# Altium footprint library Connectors_Misc.PcbLib: 46 footprints (part 1 of 3)
Each footprint in its own frame and in the unit in brackets; x right, y up, seen from the top. Pads: shape width x height; smd on the part's side, far side on the other; paste and mask are expansions set on the pad; w line width, h text height; cw(c..) or ccw(c..) is an arc to the next point about the centre after c.
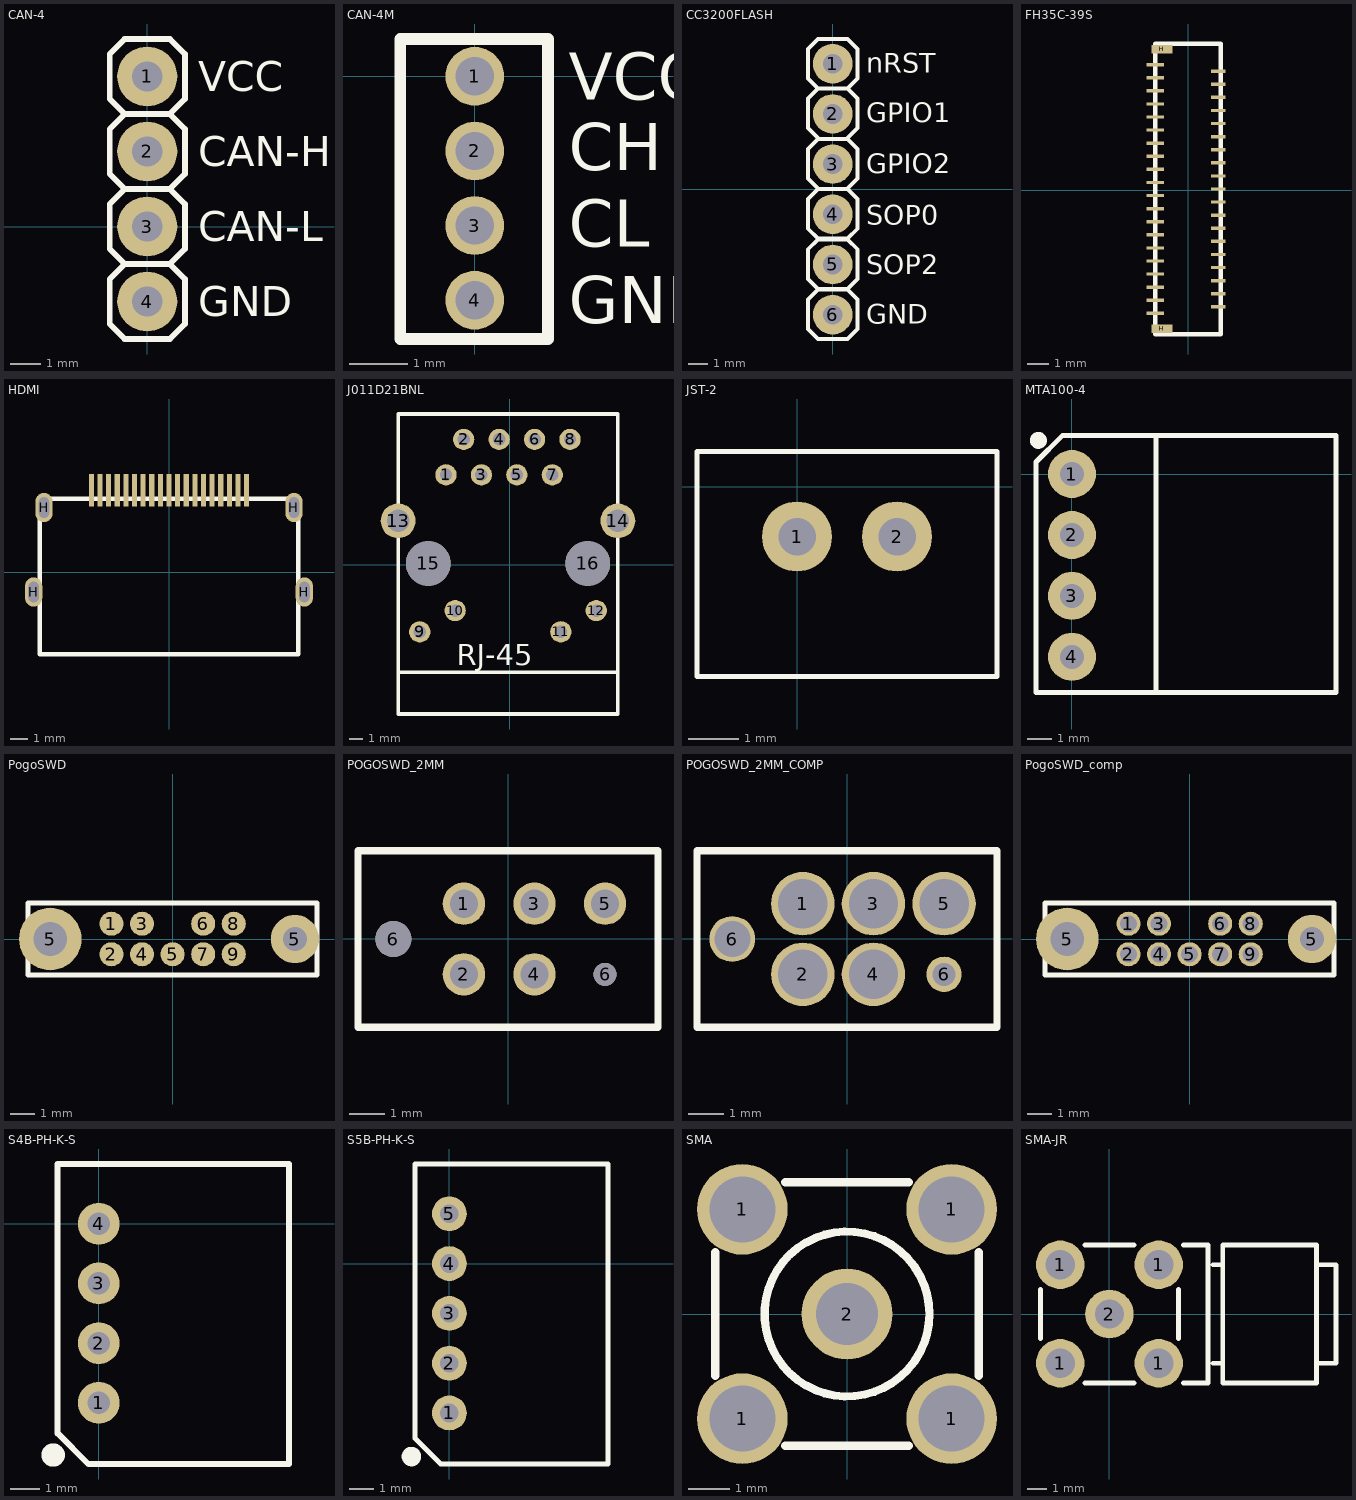
[diagram p0: the footprints below, top view; thin cyan lines are the x and y axes]

## CAN-4 [mm]
pads (4):
  round 2 hole 1: 1(0,5) 2(0,2.5) 3(0,0) 4(0,-2.5)
Top Overlay:
  lines w0.2: -0.75,-1.25 -1.25,-1.75 -1.25,-3.25 -0.75,-3.75 0.75,-3.75 1.25,-3.25 1.25,-1.75 0.75,-1.25 ; -0.75,-1.25 -1.25,-0.75 -1.25,0.75 -0.75,1.25 ; -0.75,-1.25 0.75,-1.25 ; -0.75,1.25 0.75,1.25 ; -0.75,1.25 -1.25,1.75 -1.25,3.25 -0.75,3.75 ; -0.75,3.75 -1.25,4.25 -1.25,5.75 -0.75,6.25 0.75,6.25 1.25,5.75 1.25,4.25 0.75,3.75 ; -0.75,3.75 0.75,3.75 ; 0.75,-1.25 1.25,-0.75 1.25,0.75 0.75,1.25 ; 0.75,1.25 1.25,1.75 1.25,3.25 0.75,3.75
  text "CAN-H" at 1.7,2 h1
  text "VCC" at 1.7,4.5 h1
  text "CAN-L" at 1.7,-0.5 h1
  text "GND" at 1.7,-3 h1
3D body "User Library-PLS-1.STEP": height 8.44, standoff -3, extent -1.27,3.73 1.27,6.27
3D body "User Library-PLS-1.STEP": height 8.44, standoff -3, extent -1.27,1.23 1.27,3.77
3D body "User Library-PLS-1.STEP": height 8.44, standoff -3, extent -1.27,-1.27 1.27,1.27
3D body "User Library-PLS-1.STEP": height 8.44, standoff -3, extent -1.27,-3.77 1.27,-1.23

## CAN-4M [mm]
pads (4):
  round 1 hole 0.65: 1(0,0) 2(0,-1.27) 3(0,-2.54) 4(0,-3.81)
Top Overlay:
  lines w0.2: -1.27,-4.47 -1.27,0.635 1.245,0.635 1.245,-4.47 -1.27,-4.47
  text "GND" at 1.6,-4.2 h0.8
  text "CL" at 1.6,-2.9 h0.8
  text "CH" at 1.6,-1.6 h0.8
  text "VCC" at 1.6,-0.4 h0.8
3D body "PLL-2.stp": height 5.2, standoff -2.9, extent -1.1,-2.1 1.1,0.85
3D body "PLL-2.stp": height 5.2, standoff -2.9, extent -1.1,-4.64 1.1,-1.69

## CC3200FLASH [mm]
pads (6):
  round 2 hole 1: 1(0,6.35) 2(0,3.81) 3(0,1.27) 4(0,-1.27) 5(0,-3.81) 6(0,-6.35)
Top Overlay:
  lines w0.2: -0.75,0.04 -1.25,0.54 -1.25,2.04 -0.75,2.54 0.75,2.54 1.25,2.04 1.25,0.54 0.75,0.04 ; -0.75,2.6 -1.25,3.1 -1.25,4.6 -0.75,5.1 ; 0.75,2.6 1.25,3.1 1.25,4.6 0.75,5.1 ; -0.75,5.1 0.75,5.1 ; -0.75,5.1 -1.25,5.6 -1.25,7.1 -0.75,7.6 0.75,7.6 1.25,7.1 1.25,5.6 0.75,5.1 ; -1.25,-7.08 -0.75,-7.58 0.75,-7.58 1.25,-7.08 1.25,-5.58 0.75,-5.08 -0.75,-5.08 -1.25,-5.58 -1.25,-7.08 ; -1.25,-4.54 -1.25,-3.04 -0.75,-2.54 0.75,-2.54 1.25,-3.04 1.25,-4.54 0.75,-5.04 -0.75,-5.04 -1.25,-4.54 ; -1.25,-2 -0.75,-2.5 0.75,-2.5 1.25,-2 1.25,-0.5 0.75,0 -0.75,0 -1.25,-0.5 -1.25,-2
  text "nRST" at 1.7,5.9 h1
  text "GPIO1" at 1.7,3.4 h1
  text "GPIO2" at 1.7,0.8 h1
  text "SOP0" at 1.7,-1.8 h1
  text "SOP2" at 1.7,-4.3 h1
  text "GND" at 1.7,-6.8 h1
3D body "User Library-PLS-1.STEP": height 8.44, standoff -3, extent -1.27,-7.62 1.27,-5.08
3D body "User Library-PLS-1.STEP": height 8.44, standoff -3, extent -1.27,-5.08 1.27,-2.54
3D body "User Library-PLS-1.STEP": height 8.44, standoff -3, extent -1.27,-2.54 1.27,0
3D body "User Library-PLS-1.STEP": height 8.44, standoff -3, extent -1.27,0 1.27,2.54
3D body "User Library-PLS-1.STEP": height 8.44, standoff -3, extent -1.27,2.54 1.27,5.08
3D body "User Library-PLS-1.STEP": height 8.44, standoff -3, extent -1.27,5.08 1.27,7.62

## FH35C-39S [mm]
pads (41):
  rect 0.8x0.15 smd: 1(-1.5,5.75) 3(-1.5,5.15) 5(-1.5,4.55) 7(-1.5,3.95) 9(-1.5,3.35) 11(-1.5,2.75) 13(-1.5,2.15) 15(-1.5,1.55) 17(-1.5,0.95) 19(-1.5,0.35) 21(-1.5,-0.25) 23(-1.5,-0.85) 25(-1.5,-1.45) 27(-1.5,-2.05) 29(-1.5,-2.65) 31(-1.5,-3.25) 33(-1.5,-3.85) 35(-1.5,-4.45) 37(-1.5,-5.05) 39(-1.5,-5.65)
  rect 0.65x0.15 smd: 2(1.38,5.45) 4(1.38,4.85) 6(1.38,4.25) 8(1.38,3.65) 10(1.38,3.05) 12(1.38,2.45) 14(1.38,1.85) 16(1.38,1.25) 18(1.38,0.65) 20(1.38,0.05) 22(1.38,-0.55) 24(1.38,-1.15) 26(1.38,-1.75) 28(1.38,-2.35) 30(1.38,-2.95) 32(1.38,-3.55) 34(1.38,-4.15) 36(1.38,-4.75) 38(1.38,-5.35)
  rect 0.95x0.4 smd: H(-1.2,-6.35) H(-1.2,6.45)
Top Overlay:
  lines w0.2: -1.5,-6.6 1.5,-6.6 1.5,6.7 -1.5,6.7 -1.5,-6.6
3D body "10061122391320hlf.stp": height 0.9, standoff 0, extent -2,-6.75 1.5,6.75

## HDMI [mm]
pads (23):
  rect 0.3x1.9 smd: 1(4.5,4.75) 2(4,4.75) 3(3.5,4.75) 4(3,4.75) 5(2.5,4.75) 6(2,4.75) 7(1.5,4.75) 8(1,4.75) 9(0.5,4.75) 10(0,4.75) 11(-0.5,4.75) 12(-1,4.75) 13(-1.5,4.75) 14(-2,4.75) 15(-2.5,4.75) 16(-3,4.75) 17(-3.5,4.75) 18(-4,4.75) 19(-4.5,4.75)
  oval 1x1.7 hole 0.6 slot 1.2 at 90 deg: H(-7.85,-1.15) H(-7.25,3.75) H(7.25,3.75) H(7.85,-1.15)
Top Overlay:
  lines w0.254: -7.5,-4.75 7.5,-4.75 7.5,4.25 -7.5,4.25 -7.5,-4.75
3D body "HDMI.STEP": height 6.08, standoff -1.92, extent -8.1,-4.7 8.1,5.2

## J011D21BNL [mm] "RJ45 Jack with Transformers and Lights"
height 14
pads (16):
  round 1.524 hole 0.89: 1(-4.57,6.44) 2(-3.3,8.98) 3(-2.03,6.44) 4(-0.76,8.98) 5(0.51,6.44) 6(1.78,8.98) 7(3.05,6.44) 8(4.32,8.98) 9(-6.45,-4.81) 10(-3.91,-3.29) 11(3.66,-4.81) 12(6.2,-3.29)
  round 2.5 hole 1.6: 13(-8,3.14) 14(7.75,3.14)
  round 3.2 hole 3.2 unplated: 15(-5.84,0.09) 16(5.59,0.09)
Top Overlay:
  lines w0.254: -8,-10.2 -8,-10.7 ; -8,-7.7 7.75,-7.7 ; -8,-10.7 -8,10.8 7.75,10.8 7.75,-10.7 -8,-10.7
  text "RJ-45" at -3.8,-7.2 h1.52
3D body "User Library-SS-60000-009.step": height 13.37, standoff -3.17, extent -8.118,-10.668 7.868,10.38

## JST-2 [mm]
pads (2):
  round 1.4 hole 0.75: 1(0,-1) 2(2,-1)
Top Overlay:
  lines w0.1: -2,-3.8 -2,0.7 4,0.7 4,-3.8 -2,-3.8
3D body "User Library-PCB HEADER (JST BxB-PH-K-S (VERTICAL)).step": height 6, standoff -1.91, extent -2,-3.8 4,0.7

## MTA100-4 [mm] "TE Connectivity MTA100-4 connector on board"
pads (4):
  round 2 hole 1: 1(0,0) 2(0,-2.54) 3(0,-5.08) 4(0,-7.62)
Top Overlay:
  circle w0.5: c-1.4,1.4 r0.1
  lines w0.2: 3.5,-9 3.5,1.5 ; -1.5,-9.1 -1.5,0.5 -0.4,1.6 2.5,1.6 11,1.6 11,-9.1 2.5,-9.1 -1.5,-9.1
3D body "c-0640457-04-s-3d.stp": height 5.87, standoff -3.52, extent -0.306,-8.83 10.743,1.33

## PogoSWD [mm]
pads (11):
  round 1 smd: 1(-2.54,0.635) 2(-2.54,-0.635) 3(-1.27,0.635) 4(-1.27,-0.635) 5(0,-0.635) 6(1.27,0.635) 7(1.27,-0.635) 8(2.54,0.635) 9(2.54,-0.635)
  round 2.6 hole 1.4 paste+0 mask+0: 5(-5.08,0)
  round 2 hole 1 paste+0 mask+0: 5(5.08,0)
Top Overlay:
  lines w0.2: -6,-1.5 6,-1.5 6,1.5 -6,1.5 -6,-1.5

## POGOSWD_2MM [mm]
pads (7):
  round 1.2 hole 0.8: 1(-1.25,1) 2(-1.25,-1) 3(0.75,1) 4(0.75,-1) 5(2.75,1)
  round 1.02 hole 1.02 unplated mask+0: 6(-3.25,0)
  round 0.65 hole 0.65 unplated mask+0: 6(2.75,-1)
Top Overlay:
  lines w0.2: -4.25,-2.5 -4.25,2.5 4.25,2.5 4.25,-2.5 -4.25,-2.5

## POGOSWD_2MM_COMP [mm]
pads (7):
  round 1.8 hole 1.4: 1(-1.25,1) 2(-1.25,-1) 3(0.75,1) 4(0.75,-1) 5(2.75,1)
  round 1.3 hole 1.02: 6(-3.25,0)
  round 1 hole 0.65: 6(2.75,-1)
Top Overlay:
  lines w0.2: -4.25,-2.5 4.25,-2.5 4.25,2.5 -4.25,2.5 -4.25,-2.5

## PogoSWD_comp [mm] "Footprint for PogoSWD board"
pads (11):
  round 1 hole 0.7: 1(-2.54,0.635) 2(-2.54,-0.635) 3(-1.27,0.635) 4(-1.27,-0.635) 5(0,-0.635) 6(1.27,0.635) 7(1.27,-0.635) 8(2.54,0.635) 9(2.54,-0.635)
  round 2.6 hole 1.4 paste+0 mask+0: 5(-5.08,0)
  round 2 hole 1 paste+0 mask+0: 5(5.08,0)
Top Overlay:
  lines w0.2: -6,-1.5 6,-1.5 6,1.5 -6,1.5 -6,-1.5

## S4B-PH-K-S [mm] "JST S4B-PH-K-S connector"
pads (4):
  round 1.4 hole 0.75: 1(0,-6) 2(0,-4) 3(0,-2) 4(0,0)
Top Overlay:
  circle w0.5: c-1.525,-7.75 r0.141
  lines w0.2: -1.375,-7.025 -0.35,-8.05 6.375,-8.05 6.375,2 -1.375,2 -1.375,-7.025
3D body "S4B-PH-K-S.STEP": height 4.8, standoff -3.4, extent -1.325,-7.95 6.275,1.95

## S5B-PH-K-S [mm] "JST S5B-PH-K-S connector"
pads (5):
  round 1.4 hole 0.75: 1(0,-6) 2(0,-4) 3(0,-2) 4(0,0) 5(0,2)
Top Overlay:
  circle w0.5: c-1.525,-7.75 r0.141
  lines w0.2: -1.375,-7.025 -1.375,4 6.375,4 6.375,-8.05 -0.35,-8.05 -1.375,-7.025
3D body "S5B-PH-K-S.STEP": height 4.8, standoff -3.4, extent -1.3,-7.95 6.3,3.95

## SMA [mm] "SMA socket on board"
pads (5):
  round 2.2 hole 1.6 paste+0 mask+0: 1(-2.54,-2.54) 1(-2.54,2.54) 1(2.54,-2.54) 1(2.54,2.54)
  round 2.2 hole 1.5 paste+0 mask+0: 2(0,0)
Top Overlay:
  circle w0.2: c0,0 r2
  lines w0.2: -3.2,-1.5 -3.2,1.5 ; -1.5,-3.2 1.5,-3.2 ; -1.5,3.2 1.5,3.2 ; 3.2,-1.5 3.2,1.5
3D body "c-5-1814832-1-b-3d.step": height 9.6, standoff -3.9, extent -3.2,-3.2 3.2,3.2

## SMA-JR [mm]
pads (5):
  round 2.5 hole 1.5: 1(-2.54,-2.54) 1(-2.54,2.54) 1(2.54,-2.54) 1(2.54,2.54) 2(0,0)
Top Overlay:
  lines w0.254: -3.556,-1.27 -3.556,1.27 ; -1.27,-3.556 1.27,-3.556 ; -1.27,3.556 1.27,3.556 ; 3.556,-1.27 3.556,1.27 ; 3.81,-3.556 5.08,-3.556 5.08,3.556 3.81,3.556 ; 5.334,-2.54 5.842,-2.54 ; 5.334,2.54 5.842,2.54 ; 10.668,-2.54 11.684,-2.54 11.684,2.54 10.668,2.54 ; 5.842,-3.556 10.668,-3.556 10.668,3.556 5.842,3.556 5.842,-3.556